# Altium integrated library TI Interface LVDS M-LVDS ECL CML.IntLib: 251 symbols (part 8 of 10)
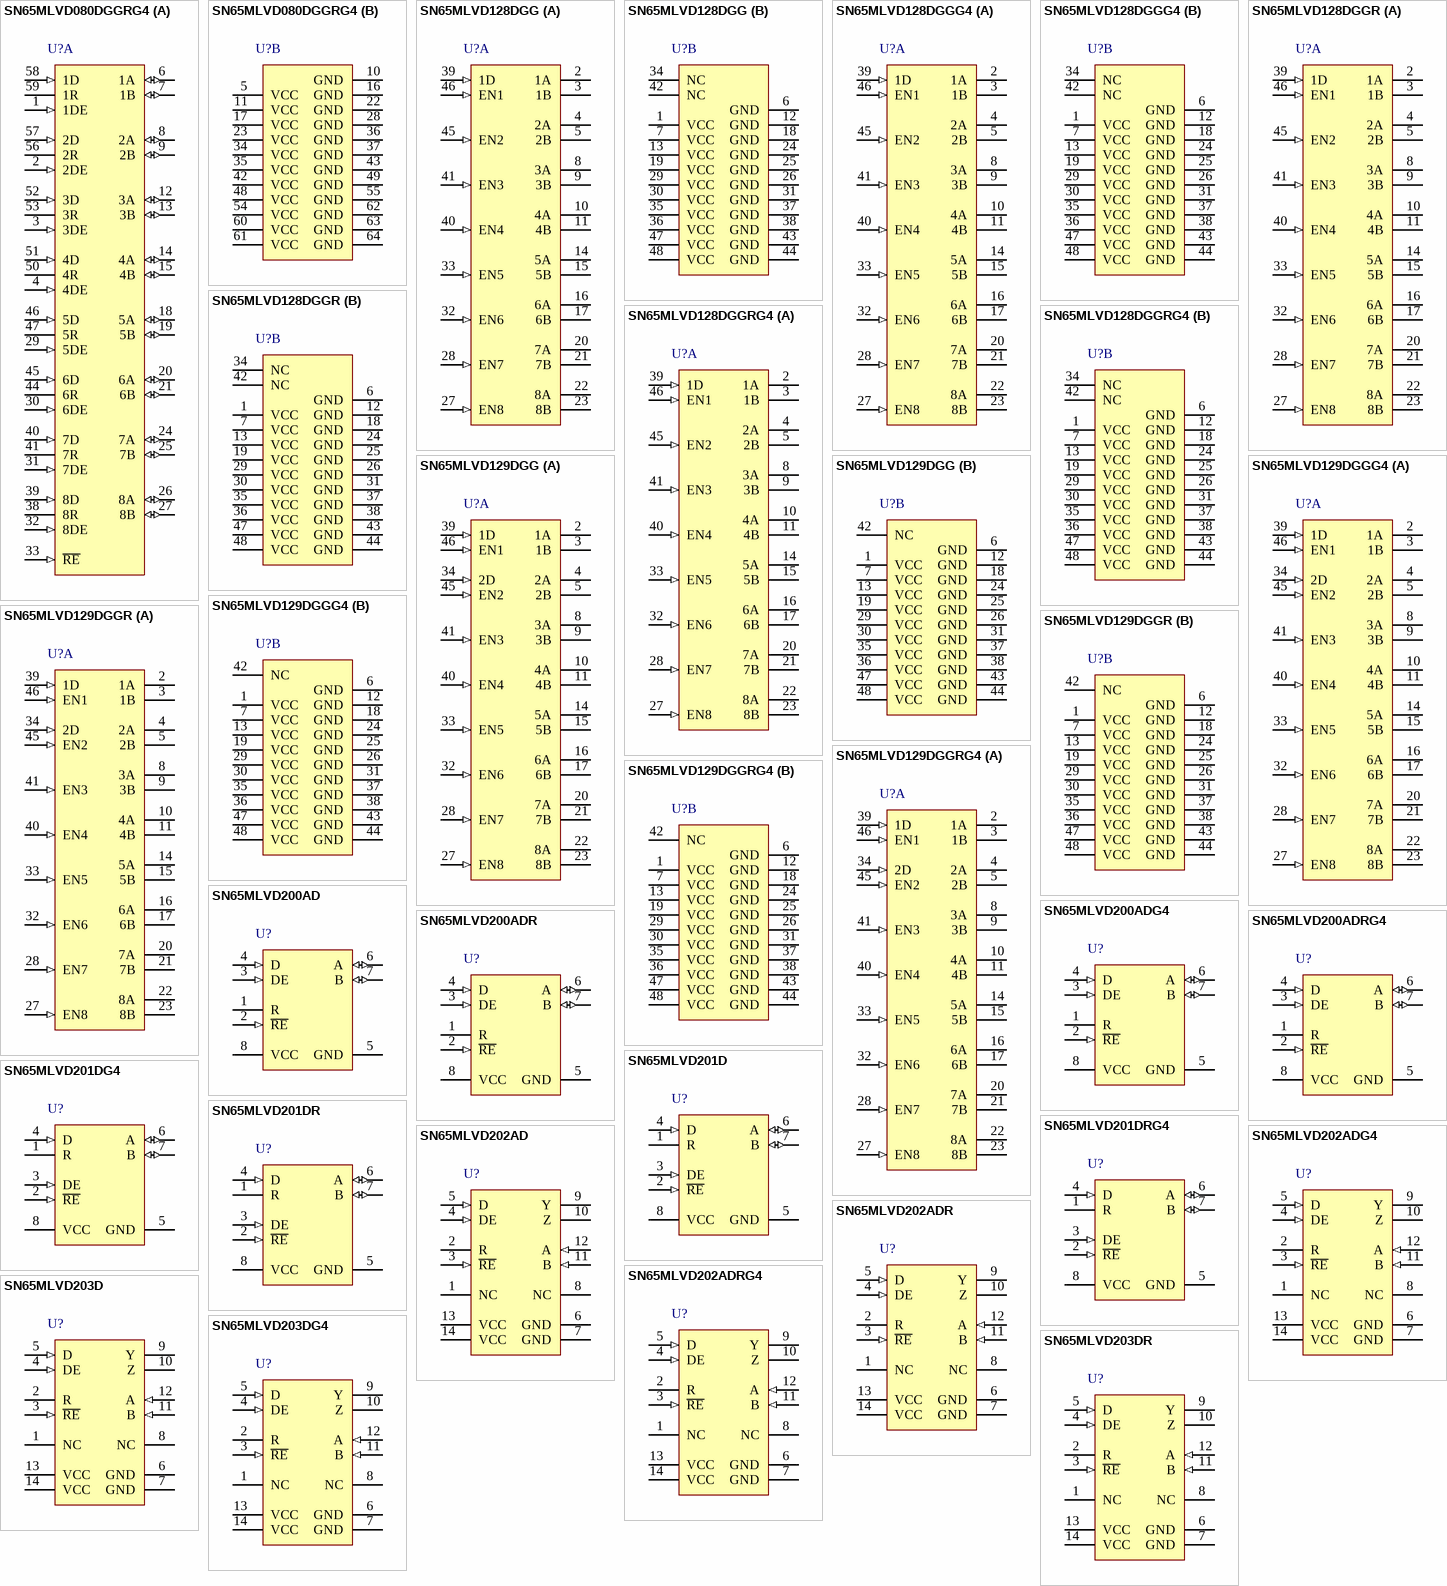
[diagram p16: symbols SN65MLVD080DGGRG4 to SN65MLVD203DR]

## SN65MLVD129DGGR
designator U?
250 Mbps Dual 1:4 LVTTL to M-LVDS Repeater with LVTTL Input and M-LVDS Output, 8 Tx and 2 Rx, -40 to +85 degC, 48-pin TSSOP (DGG), Green (RoHS & no Sb/Br); Part-to-Part Skew(Max)(ps): 800; Manufacturer: Texas Instruments; PartNumber: SN65MLVD129DGGR; ESD HBM(kV): 9; Function: Repeater/Translator; ICC(Max)(mA): 140; No. of Rx: 2; No. of Tx: 8; Peak-to-Peak Jitter(Max)(ps): 110; Signaling Rate(Mbps): 250; SubFamily: M-LVDS PHY (<500Mbps); DatasheetVersion: SLLS586; PackageVersion: revF, Dec-1997; PackageReference: DGG48; PackageDescription: 48-Pin Plastic Thin Shrink Small Outline Package 0.5 mm Pitch; Supplier 1: Digi-Key; Supplier Part Number 1: SN65MLVD129DGGR-ND; Supplier 2: Newark; Supplier Part Number 2: 01J0716; Supplier 3: Mouser; Supplier Part Number 3: 595-SN65MLVD129DGGR; Eco-Plan: Green (RoHS & no Sb/Br); Input Signal: LVTTL; Output Signal: M-LVDS; Mounting Technology: Surface Mount; Code_JEDEC: MO-153; ComponentLink1Description: Datasheet; ComponentLink1URL: http://www.ti.com/general/docs/lit/getliterature.tsp?genericPartNumber=SN65MLVD129&fileType=pdf; ComponentLink2Description: URL Link1; ComponentLink2URL: SamplesURL:http://www.ti.com/product/sn65mlvd129#samples
footprint DGG48_N (TSSOP, 48-Leads, Body 12.5x6.1mm, Pitch 0.5mm, IPC Medium Density)
footprint DGG48_L (TSSOP, 48-Leads, Body 12.5x6.1mm, Pitch 0.5mm, IPC High Density)
footprint DGG48_M (TSSOP, 48-Leads, Body 12.5x6.1mm, Pitch 0.5mm, IPC Low Density)
part A pins: 2 1A (hiz) "M-LVDS bus noninverting output", 3 1B (hiz) "M-LVDS bus inverting output", 4 2A (hiz) "M-LVDS bus noninverting output", 5 2B (hiz) "M-LVDS bus inverting output", 8 3A (hiz) "M-LVDS bus noninverting output", 9 3B (hiz) "M-LVDS bus inverting output", 10 4A (hiz) "M-LVDS bus noninverting output", 11 4B (hiz) "M-LVDS bus inverting output", 14 5A (hiz) "M-LVDS bus noninverting output", 15 5B (hiz) "M-LVDS bus inverting output", 16 6A (hiz) "M-LVDS bus noninverting output", 17 6B (hiz) "M-LVDS bus inverting output", 20 7A (hiz) "M-LVDS bus noninverting output", 21 7B (hiz) "M-LVDS bus inverting output", 22 8A (hiz) "M-LVDS bus noninverting output", 23 8B (hiz) "M-LVDS bus inverting output", 27 EN8 (in) "Driver enable,active high,individual enables", 28 EN7 (in) "Driver enable,active high,individual enables", 32 EN6 (in) "Driver enable,active high,individual enables", 33 EN5 (in) "Driver enable,active high,individual enables", 34 2D (in) "Data inputs for drivers", 39 1D (in) "Data inputs for drivers", 40 EN4 (in) "Driver enable,active high,individual enables", 41 EN3 (in) "Driver enable,active high,individual enables", 45 EN2 (in) "Driver enable,active high,individual enables", 46 EN1 (in) "Driver enable,active high,individual enables"
part B pins: 1 VCC (power) "Supply voltage", 6 GND (power) "Circuit ground", 7 VCC (power) "Supply voltage", 12 GND (power) "Circuit ground", 13 VCC (power) "Supply voltage", 18 GND (power) "Circuit ground", 19 VCC (power) "Supply voltage", 24 GND (power) "Circuit ground", 25 GND (power) "Circuit ground", 26 GND (power) "Circuit ground", 29 VCC (power) "Supply voltage", 30 VCC (power) "Supply voltage", 31 GND (power) "Circuit ground", 35 VCC (power) "Supply voltage", 36 VCC (power) "Supply voltage", 37 GND (power) "Circuit ground", 38 GND (power) "Circuit ground", 42 NC "Not connected", 43 GND (power) "Circuit ground", 44 GND (power) "Circuit ground", 47 VCC (power) "Supply voltage", 48 VCC (power) "Supply voltage"

## SN65MLVD129DGGRG4
designator U?
250 Mbps Dual 1:4 LVTTL to M-LVDS Repeater with LVTTL Input and M-LVDS Output, 8 Tx and 2 Rx, -40 to +85 degC, 48-pin TSSOP (DGG), Green (RoHS & no Sb/Br); Part-to-Part Skew(Max)(ps): 800; Manufacturer: Texas Instruments; PartNumber: SN65MLVD129DGGRG4; ESD HBM(kV): 9; Function: Repeater/Translator; ICC(Max)(mA): 140; No. of Rx: 2; No. of Tx: 8; Peak-to-Peak Jitter(Max)(ps): 110; Signaling Rate(Mbps): 250; SubFamily: M-LVDS PHY (<500Mbps); DatasheetVersion: SLLS586; PackageVersion: revF, Dec-1997; PackageReference: DGG48; PackageDescription: 48-Pin Plastic Thin Shrink Small Outline Package 0.5 mm Pitch; Supplier 1: Digi-Key; Supplier Part Number 1: SN65MLVD129DGGRG4-ND; Supplier 2: Newark; Supplier Part Number 2: 54K0593; Supplier 3: Mouser; Supplier Part Number 3: 595-SN65MLVD129DGGRG; Eco-Plan: Green (RoHS & no Sb/Br); Input Signal: LVTTL; Output Signal: M-LVDS; Mounting Technology: Surface Mount; Code_JEDEC: MO-153; ComponentLink1Description: Datasheet; ComponentLink1URL: http://www.ti.com/general/docs/lit/getliterature.tsp?genericPartNumber=SN65MLVD129&fileType=pdf; ComponentLink2Description: URL Link1; ComponentLink2URL: SamplesURL:http://www.ti.com/product/sn65mlvd129#samples
footprint DGG48_N (TSSOP, 48-Leads, Body 12.5x6.1mm, Pitch 0.5mm, IPC Medium Density)
footprint DGG48_L (TSSOP, 48-Leads, Body 12.5x6.1mm, Pitch 0.5mm, IPC High Density)
footprint DGG48_M (TSSOP, 48-Leads, Body 12.5x6.1mm, Pitch 0.5mm, IPC Low Density)
part A pins: 2 1A (hiz) "M-LVDS bus noninverting output", 3 1B (hiz) "M-LVDS bus inverting output", 4 2A (hiz) "M-LVDS bus noninverting output", 5 2B (hiz) "M-LVDS bus inverting output", 8 3A (hiz) "M-LVDS bus noninverting output", 9 3B (hiz) "M-LVDS bus inverting output", 10 4A (hiz) "M-LVDS bus noninverting output", 11 4B (hiz) "M-LVDS bus inverting output", 14 5A (hiz) "M-LVDS bus noninverting output", 15 5B (hiz) "M-LVDS bus inverting output", 16 6A (hiz) "M-LVDS bus noninverting output", 17 6B (hiz) "M-LVDS bus inverting output", 20 7A (hiz) "M-LVDS bus noninverting output", 21 7B (hiz) "M-LVDS bus inverting output", 22 8A (hiz) "M-LVDS bus noninverting output", 23 8B (hiz) "M-LVDS bus inverting output", 27 EN8 (in) "Driver enable,active high,individual enables", 28 EN7 (in) "Driver enable,active high,individual enables", 32 EN6 (in) "Driver enable,active high,individual enables", 33 EN5 (in) "Driver enable,active high,individual enables", 34 2D (in) "Data inputs for drivers", 39 1D (in) "Data inputs for drivers", 40 EN4 (in) "Driver enable,active high,individual enables", 41 EN3 (in) "Driver enable,active high,individual enables", 45 EN2 (in) "Driver enable,active high,individual enables", 46 EN1 (in) "Driver enable,active high,individual enables"
part B pins: 1 VCC (power) "Supply voltage", 6 GND (power) "Circuit ground", 7 VCC (power) "Supply voltage", 12 GND (power) "Circuit ground", 13 VCC (power) "Supply voltage", 18 GND (power) "Circuit ground", 19 VCC (power) "Supply voltage", 24 GND (power) "Circuit ground", 25 GND (power) "Circuit ground", 26 GND (power) "Circuit ground", 29 VCC (power) "Supply voltage", 30 VCC (power) "Supply voltage", 31 GND (power) "Circuit ground", 35 VCC (power) "Supply voltage", 36 VCC (power) "Supply voltage", 37 GND (power) "Circuit ground", 38 GND (power) "Circuit ground", 42 NC "Not connected", 43 GND (power) "Circuit ground", 44 GND (power) "Circuit ground", 47 VCC (power) "Supply voltage", 48 VCC (power) "Supply voltage"

## SN65MLVD200AD
designator U?
100 Mbps Half-Duplex M-LVDS Transceiver with LVTTL, M-LVDS Input and LVTTL, M-LVDS Output, 1 Tx and 1 Rx, -40 to +85 degC, 8-pin SOIC (D), Green (RoHS & no Sb/Br); Part-to-Part Skew(Max)(ps): 1000; Manufacturer: Texas Instruments; PartNumber: SN65MLVD200AD; ESD HBM(kV): 8; ICC(Max)(mA): 24; No. of Rx: 1; Signaling Rate(Mbps): 100; SubFamily: M-LVDS PHY (<500Mbps); DatasheetVersion: SLLS573; PackageVersion: revG, Feb-2011; PackageReference: PW14; PackageDescription: 14-Pin Thin Small Outline Package 0.65 mm Pitch; Eco-Plan: Green (RoHS & no Sb/Br); Function: Transceiver; Input Signal: LVTTL, M-LVDS; No. of Tx: 1; Output Signal: LVTTL, M-LVDS; Mounting Technology: Surface Mount; Code_JEDEC: MO-153; ComponentLink1Description: Datasheet; ComponentLink1URL: http://www.ti.com/general/docs/lit/getliterature.tsp?genericPartNumber=SN65MLVD200A&fileType=pdf; ComponentLink2Description: URL Link1; ComponentLink2URL: SamplesURL:http://www.ti.com/product/sn65mlvd200a#samples
footprint PW14_N (TSOP, 14-Leads, Body 5x4.4mm, Pitch 0.65mm, IPC Medium Density)
footprint PW14_L (TSOP, 14-Leads, Body 5x4.4mm, Pitch 0.65mm, IPC High Density)
footprint PW14_M (TSOP, 14-Leads, Body 5x4.4mm, Pitch 0.65mm, IPC Low Density)
pins: 1 R (hiz), 2 ~{RE} (in), 3 DE (in), 4 D (in), 5 GND (power), 6 A (io), 7 B (io), 8 VCC (power)

## SN65MLVD200ADG4
designator U?
100 Mbps Half-Duplex M-LVDS Transceiver with LVTTL, M-LVDS Input and LVTTL, M-LVDS Output, 1 Tx and 1 Rx, -40 to +85 degC, 8-pin SOIC (D), Green (RoHS & no Sb/Br); Part-to-Part Skew(Max)(ps): 1000; Manufacturer: Texas Instruments; PartNumber: SN65MLVD200ADG4; ESD HBM(kV): 8; ICC(Max)(mA): 24; No. of Rx: 1; Signaling Rate(Mbps): 100; SubFamily: M-LVDS PHY (<500Mbps); DatasheetVersion: SLLS573; PackageVersion: revG, Feb-2011; PackageReference: PW14; PackageDescription: 14-Pin Thin Small Outline Package 0.65 mm Pitch; Eco-Plan: Green (RoHS & no Sb/Br); Function: Transceiver; Input Signal: LVTTL, M-LVDS; No. of Tx: 1; Output Signal: LVTTL, M-LVDS; Mounting Technology: Surface Mount; Code_JEDEC: MO-153; ComponentLink1Description: Datasheet; ComponentLink1URL: http://www.ti.com/general/docs/lit/getliterature.tsp?genericPartNumber=SN65MLVD200A&fileType=pdf; ComponentLink2Description: URL Link1; ComponentLink2URL: SamplesURL:http://www.ti.com/product/sn65mlvd200a#samples
footprint PW14_N (TSOP, 14-Leads, Body 5x4.4mm, Pitch 0.65mm, IPC Medium Density)
footprint PW14_L (TSOP, 14-Leads, Body 5x4.4mm, Pitch 0.65mm, IPC High Density)
footprint PW14_M (TSOP, 14-Leads, Body 5x4.4mm, Pitch 0.65mm, IPC Low Density)
pins: 1 R (hiz), 2 ~{RE} (in), 3 DE (in), 4 D (in), 5 GND (power), 6 A (io), 7 B (io), 8 VCC (power)

## SN65MLVD200ADR
designator U?
100 Mbps Half-Duplex M-LVDS Transceiver with LVTTL, M-LVDS Input and LVTTL, M-LVDS Output, 1 Tx and 1 Rx, -40 to +85 degC, 8-pin SOIC (D), Green (RoHS & no Sb/Br); Part-to-Part Skew(Max)(ps): 1000; Manufacturer: Texas Instruments; PartNumber: SN65MLVD200ADR; ESD HBM(kV): 8; ICC(Max)(mA): 24; No. of Rx: 1; Signaling Rate(Mbps): 100; SubFamily: M-LVDS PHY (<500Mbps); DatasheetVersion: SLLS573; PackageVersion: revG, Feb-2011; PackageReference: PW14; PackageDescription: 14-Pin Thin Small Outline Package 0.65 mm Pitch; Eco-Plan: Green (RoHS & no Sb/Br); Function: Transceiver; Input Signal: LVTTL, M-LVDS; No. of Tx: 1; Output Signal: LVTTL, M-LVDS; Mounting Technology: Surface Mount; Code_JEDEC: MO-153; ComponentLink1Description: Datasheet; ComponentLink1URL: http://www.ti.com/general/docs/lit/getliterature.tsp?genericPartNumber=SN65MLVD200A&fileType=pdf; ComponentLink2Description: URL Link1; ComponentLink2URL: SamplesURL:http://www.ti.com/product/sn65mlvd200a#samples
footprint PW14_N (TSOP, 14-Leads, Body 5x4.4mm, Pitch 0.65mm, IPC Medium Density)
footprint PW14_L (TSOP, 14-Leads, Body 5x4.4mm, Pitch 0.65mm, IPC High Density)
footprint PW14_M (TSOP, 14-Leads, Body 5x4.4mm, Pitch 0.65mm, IPC Low Density)
pins: 1 R (hiz), 2 ~{RE} (in), 3 DE (in), 4 D (in), 5 GND (power), 6 A (io), 7 B (io), 8 VCC (power)

## SN65MLVD200ADRG4
designator U?
100 Mbps Half-Duplex M-LVDS Transceiver with LVTTL, M-LVDS Input and LVTTL, M-LVDS Output, 1 Tx and 1 Rx, -40 to +85 degC, 8-pin SOIC (D), Green (RoHS & no Sb/Br); Part-to-Part Skew(Max)(ps): 1000; Manufacturer: Texas Instruments; PartNumber: SN65MLVD200ADRG4; ESD HBM(kV): 8; ICC(Max)(mA): 24; No. of Rx: 1; Signaling Rate(Mbps): 100; SubFamily: M-LVDS PHY (<500Mbps); DatasheetVersion: SLLS573; PackageVersion: revG, Feb-2011; PackageReference: PW14; PackageDescription: 14-Pin Thin Small Outline Package 0.65 mm Pitch; Eco-Plan: Green (RoHS & no Sb/Br); Function: Transceiver; Input Signal: LVTTL, M-LVDS; No. of Tx: 1; Output Signal: LVTTL, M-LVDS; Mounting Technology: Surface Mount; Code_JEDEC: MO-153; ComponentLink1Description: Datasheet; ComponentLink1URL: http://www.ti.com/general/docs/lit/getliterature.tsp?genericPartNumber=SN65MLVD200A&fileType=pdf; ComponentLink2Description: URL Link1; ComponentLink2URL: SamplesURL:http://www.ti.com/product/sn65mlvd200a#samples
footprint PW14_N (TSOP, 14-Leads, Body 5x4.4mm, Pitch 0.65mm, IPC Medium Density)
footprint PW14_L (TSOP, 14-Leads, Body 5x4.4mm, Pitch 0.65mm, IPC High Density)
footprint PW14_M (TSOP, 14-Leads, Body 5x4.4mm, Pitch 0.65mm, IPC Low Density)
pins: 1 R (hiz), 2 ~{RE} (in), 3 DE (in), 4 D (in), 5 GND (power), 6 A (io), 7 B (io), 8 VCC (power)

## SN65MLVD201D
designator U?
200 Mbps Half-Duplex M-LVDS Transceiver with LVTTL, M-LVDS Input and LVTTL, M-LVDS Output, 1 Tx and 1 Rx, -40 to +85 degC, 8-pin SOIC (D), Green (RoHS & no Sb/Br); Part-to-Part Skew(Max)(ps): 1000; Manufacturer: Texas Instruments; PartNumber: SN65MLVD201D; ESD HBM(kV): 8; ICC(Max)(mA): 24; No. of Rx: 1; Signaling Rate(Mbps): 200; SubFamily: M-LVDS PHY (<500Mbps); DatasheetVersion: SLLS558C; PackageVersion: revM, Jun-2011; PackageReference: D8; PackageDescription: 8-Pin Plastic Small Outline Integrated Circuit, 4.9 x 3.9 mm, Pitch 1.27 mm Pitch; Eco-Plan: Green (RoHS & no Sb/Br); Function: Transceiver; Input Signal: LVTTL, M-LVDS; No. of Tx: 1; Output Signal: LVTTL, M-LVDS; Mounting Technology: Surface Mount; Code_JEDEC: MS-012AA; ComponentLink1Description: Datasheet; ComponentLink1URL: http://www.ti.com/general/docs/lit/getliterature.tsp?genericPartNumber=SN65MLVD201&fileType=pdf; ComponentLink2Description: URL Link1; ComponentLink2URL: SamplesURL:http://www.ti.com/product/sn65mlvd201#samples
footprint D8_N (SOIC, 8-Leads, Body 4.9x3.9mm, Pitch 1.27mm, IPC Medium Density)
footprint D8_L (SOIC, 8-Leads, Body 4.9x3.9mm, Pitch 1.27mm, IPC High Density)
footprint D8_M (SOIC, 8-Leads, Body 4.9x3.9mm, Pitch 1.27mm, IPC Low Density)
pins: 1 R (hiz), 2 ~{RE} (in), 3 DE (in), 4 D (in), 5 GND (power), 6 A (io), 7 B (io), 8 VCC (power)

## SN65MLVD201DG4
designator U?
200 Mbps Half Duplex M-LVDS Transceiver with LVTTL Input and LVTTL Output, 1 Tx and 1 Rx, -40 to +85 degC, 8-pin SOIC (D), Green (RoHS & no Sb/Br); Part-to-Part Skew(Max)(ps): 1000; Manufacturer: Texas Instruments; PartNumber: SN65MLVD201DG4; ESD HBM(kV): 8; ICC(Max)(mA): 24; Input Signal: LVTTL, M-LVDS; No. of Rx: 1; Signaling Rate(Mbps): 200; SubFamily: M-LVDS PHY (<500Mbps); DatasheetVersion: SLLS558C; PackageVersion: revM, Jun-2011; PackageReference: D8; PackageDescription: 8-Pin Plastic Small Outline Integrated Circuit, 4.9 x 3.9 mm, Pitch 1.27 mm Pitch; Eco-Plan: Green (RoHS & no Sb/Br); Function: Transceiver; No. of Tx: 1; Output Signal: LVTTL, M-LVDS; Mounting Technology: Surface Mount; Code_JEDEC: MS-012AA; ComponentLink1Description: Datasheet; ComponentLink1URL: http://www.ti.com/general/docs/lit/getliterature.tsp?genericPartNumber=SN65MLVD201&fileType=pdf; ComponentLink2Description: URL Link1; ComponentLink2URL: SamplesURL:http://www.ti.com/product/sn65mlvd201#samples
footprint D8_N (SOIC, 8-Leads, Body 4.9x3.9mm, Pitch 1.27mm, IPC Medium Density)
footprint D8_L (SOIC, 8-Leads, Body 4.9x3.9mm, Pitch 1.27mm, IPC High Density)
footprint D8_M (SOIC, 8-Leads, Body 4.9x3.9mm, Pitch 1.27mm, IPC Low Density)
pins: 1 R (hiz), 2 ~{RE} (in), 3 DE (in), 4 D (in), 5 GND (power), 6 A (io), 7 B (io), 8 VCC (power)

## SN65MLVD201DR
designator U?
200 Mbps Half Duplex M-LVDS Transceiver with LVTTL Input and LVTTL Output, 1 Tx and 1 Rx, -40 to +85 degC, 8-pin SOIC (D), Green (RoHS & no Sb/Br); Part-to-Part Skew(Max)(ps): 1000; Manufacturer: Texas Instruments; PartNumber: SN65MLVD201DR; ESD HBM(kV): 8; ICC(Max)(mA): 24; Input Signal: LVTTL, M-LVDS; No. of Rx: 1; Signaling Rate(Mbps): 200; SubFamily: M-LVDS PHY (<500Mbps); DatasheetVersion: SLLS558C; PackageVersion: revM, Jun-2011; PackageReference: D8; PackageDescription: 8-Pin Plastic Small Outline Integrated Circuit, 4.9 x 3.9 mm, Pitch 1.27 mm Pitch; Eco-Plan: Green (RoHS & no Sb/Br); Function: Transceiver; No. of Tx: 1; Output Signal: LVTTL, M-LVDS; Mounting Technology: Surface Mount; Code_JEDEC: MS-012AA; ComponentLink1Description: Datasheet; ComponentLink1URL: http://www.ti.com/general/docs/lit/getliterature.tsp?genericPartNumber=SN65MLVD201&fileType=pdf; ComponentLink2Description: URL Link1; ComponentLink2URL: SamplesURL:http://www.ti.com/product/sn65mlvd201#samples
footprint D8_N (SOIC, 8-Leads, Body 4.9x3.9mm, Pitch 1.27mm, IPC Medium Density)
footprint D8_L (SOIC, 8-Leads, Body 4.9x3.9mm, Pitch 1.27mm, IPC High Density)
footprint D8_M (SOIC, 8-Leads, Body 4.9x3.9mm, Pitch 1.27mm, IPC Low Density)
pins: 1 R (hiz), 2 ~{RE} (in), 3 DE (in), 4 D (in), 5 GND (power), 6 A (io), 7 B (io), 8 VCC (power)

## SN65MLVD201DRG4
designator U?
200 Mbps Half-Duplex M-LVDS Transceiver with LVTTL, M-LVDS Input and LVTTL, M-LVDS Output, 1 Tx and 1 Rx, -40 to +85 degC, 8-pin SOIC (D), Green (RoHS & no Sb/Br); Part-to-Part Skew(Max)(ps): 1000; Manufacturer: Texas Instruments; PartNumber: SN65MLVD201DRG4; ESD HBM(kV): 8; ICC(Max)(mA): 24; No. of Rx: 1; Signaling Rate(Mbps): 200; SubFamily: M-LVDS PHY (<500Mbps); DatasheetVersion: SLLS558C; PackageVersion: revM, Jun-2011; PackageReference: D8; PackageDescription: 8-Pin Plastic Small Outline Integrated Circuit, 4.9 x 3.9 mm, Pitch 1.27 mm Pitch; Eco-Plan: Green (RoHS & no Sb/Br); Function: Transceiver; Input Signal: LVTTL, M-LVDS; No. of Tx: 1; Output Signal: LVTTL, M-LVDS; Mounting Technology: Surface Mount; Code_JEDEC: MS-012AA; ComponentLink1Description: Datasheet; ComponentLink1URL: http://www.ti.com/general/docs/lit/getliterature.tsp?genericPartNumber=SN65MLVD201&fileType=pdf; ComponentLink2Description: URL Link1; ComponentLink2URL: SamplesURL:http://www.ti.com/product/sn65mlvd201#samples
footprint D8_N (SOIC, 8-Leads, Body 4.9x3.9mm, Pitch 1.27mm, IPC Medium Density)
footprint D8_L (SOIC, 8-Leads, Body 4.9x3.9mm, Pitch 1.27mm, IPC High Density)
footprint D8_M (SOIC, 8-Leads, Body 4.9x3.9mm, Pitch 1.27mm, IPC Low Density)
pins: 1 R (hiz), 2 ~{RE} (in), 3 DE (in), 4 D (in), 5 GND (power), 6 A (io), 7 B (io), 8 VCC (power)

## SN65MLVD202AD
designator U?
100 Mbps Full-Duplex M-LVDS Transceiver with LVTTL, M-LVDS Input and LVTTL, M-LVDS Output, 1Rx, -40 to +85 degC, 14-pin SOIC (D), Green (RoHS & no Sb/Br); Part-to-Part Skew(Max)(ps): 1000; Manufacturer: Texas Instruments; PartNumber: SN65MLVD202AD; ESD HBM(kV): 8; ICC(Max)(mA): 24; No. of Rx: 1; Signaling Rate(Mbps): 100; SubFamily: M-LVDS PHY (<500Mbps); DatasheetVersion: SLLS573; PackageVersion: revM, Jun-2011; PackageReference: D14; PackageDescription: 14-Pin Plastic Small Outline Integrated Circuit, 8.7 x 3.9 mm, Pitch 1.27 mm Pitch; Eco-Plan: Green (RoHS & no Sb/Br); Function: Transceiver; Input Signal: LVTTL, M-LVDS; No. of Tx: 1; Output Signal: LVTTL, M-LVDS; Mounting Technology: Surface Mount; Code_JEDEC: MS-012AB; ComponentLink1Description: Datasheet; ComponentLink1URL: http://www.ti.com/general/docs/lit/getliterature.tsp?genericPartNumber=SN65MLVD202A&fileType=pdf; ComponentLink2Description: URL Link1; ComponentLink2URL: SamplesURL:http://www.ti.com/product/sn65mlvd202a#samples
footprint D14_N (SOIC, 14-Leads, Body 8.7x3.9mm, Pitch 1.27mm, IPC Medium Density)
footprint D14_L (SOIC, 14-Leads, Body 8.7x3.9mm, Pitch 1.27mm, IPC High Density)
footprint D14_M (SOIC, 14-Leads, Body 8.7x3.9mm, Pitch 1.27mm, IPC Low Density)
pins: 1 NC, 2 R (hiz), 3 ~{RE} (in), 4 DE (in), 5 D (in), 6 GND (power), 7 GND (power), 8 NC, 9 Y (hiz), 10 Z (hiz), 11 B (in), 12 A (in), 13 VCC (power), 14 VCC (power)

## SN65MLVD202ADG4
designator U?
100 Mbps Full-Duplex M-LVDS Transceiver with LVTTL, M-LVDS Input and LVTTL, M-LVDS Output, 1Rx, -40 to +85 degC, 14-pin SOIC (D), Green (RoHS & no Sb/Br); Part-to-Part Skew(Max)(ps): 1000; Manufacturer: Texas Instruments; PartNumber: SN65MLVD202ADG4; ESD HBM(kV): 8; ICC(Max)(mA): 24; No. of Rx: 1; Signaling Rate(Mbps): 100; SubFamily: M-LVDS PHY (<500Mbps); DatasheetVersion: SLLS573; PackageVersion: revM, Jun-2011; PackageReference: D14; PackageDescription: 14-Pin Plastic Small Outline Integrated Circuit, 8.7 x 3.9 mm, Pitch 1.27 mm Pitch; Eco-Plan: Green (RoHS & no Sb/Br); Function: Transceiver; Input Signal: LVTTL, M-LVDS; No. of Tx: 1; Output Signal: LVTTL, M-LVDS; Mounting Technology: Surface Mount; Code_JEDEC: MS-012AB; ComponentLink1Description: Datasheet; ComponentLink1URL: http://www.ti.com/general/docs/lit/getliterature.tsp?genericPartNumber=SN65MLVD202A&fileType=pdf; ComponentLink2Description: URL Link1; ComponentLink2URL: SamplesURL:http://www.ti.com/product/sn65mlvd202a#samples
footprint D14_N (SOIC, 14-Leads, Body 8.7x3.9mm, Pitch 1.27mm, IPC Medium Density)
footprint D14_L (SOIC, 14-Leads, Body 8.7x3.9mm, Pitch 1.27mm, IPC High Density)
footprint D14_M (SOIC, 14-Leads, Body 8.7x3.9mm, Pitch 1.27mm, IPC Low Density)
pins: 1 NC, 2 R (hiz), 3 ~{RE} (in), 4 DE (in), 5 D (in), 6 GND (power), 7 GND (power), 8 NC, 9 Y (hiz), 10 Z (hiz), 11 B (in), 12 A (in), 13 VCC (power), 14 VCC (power)

## SN65MLVD202ADR
designator U?
100 Mbps Full-Duplex M-LVDS Transceiver with LVTTL, M-LVDS Input and LVTTL, M-LVDS Output, 1Rx, -40 to +85 degC, 14-pin SOIC (D), Green (RoHS & no Sb/Br); Part-to-Part Skew(Max)(ps): 1000; Manufacturer: Texas Instruments; PartNumber: SN65MLVD202ADR; ESD HBM(kV): 8; ICC(Max)(mA): 24; No. of Rx: 1; Signaling Rate(Mbps): 100; SubFamily: M-LVDS PHY (<500Mbps); DatasheetVersion: SLLS573; PackageVersion: revM, Jun-2011; PackageReference: D14; PackageDescription: 14-Pin Plastic Small Outline Integrated Circuit, 8.7 x 3.9 mm, Pitch 1.27 mm Pitch; Eco-Plan: Green (RoHS & no Sb/Br); Function: Transceiver; Input Signal: LVTTL, M-LVDS; No. of Tx: 1; Output Signal: LVTTL, M-LVDS; Mounting Technology: Surface Mount; Code_JEDEC: MS-012AB; ComponentLink1Description: Datasheet; ComponentLink1URL: http://www.ti.com/general/docs/lit/getliterature.tsp?genericPartNumber=SN65MLVD202A&fileType=pdf; ComponentLink2Description: URL Link1; ComponentLink2URL: SamplesURL:http://www.ti.com/product/sn65mlvd202a#samples
footprint D14_N (SOIC, 14-Leads, Body 8.7x3.9mm, Pitch 1.27mm, IPC Medium Density)
footprint D14_L (SOIC, 14-Leads, Body 8.7x3.9mm, Pitch 1.27mm, IPC High Density)
footprint D14_M (SOIC, 14-Leads, Body 8.7x3.9mm, Pitch 1.27mm, IPC Low Density)
pins: 1 NC, 2 R (hiz), 3 ~{RE} (in), 4 DE (in), 5 D (in), 6 GND (power), 7 GND (power), 8 NC, 9 Y (hiz), 10 Z (hiz), 11 B (in), 12 A (in), 13 VCC (power), 14 VCC (power)

## SN65MLVD202ADRG4
designator U?
100 Mbps Full-Duplex M-LVDS Transceiver with LVTTL, M-LVDS Input and LVTTL, M-LVDS Output, 1Rx, -40 to +85 degC, 14-pin SOIC (D), Green (RoHS & no Sb/Br); Part-to-Part Skew(Max)(ps): 1000; Manufacturer: Texas Instruments; PartNumber: SN65MLVD202ADRG4; ESD HBM(kV): 8; ICC(Max)(mA): 24; No. of Rx: 1; Signaling Rate(Mbps): 100; SubFamily: M-LVDS PHY (<500Mbps); DatasheetVersion: SLLS573; PackageVersion: revM, Jun-2011; PackageReference: D14; PackageDescription: 14-Pin Plastic Small Outline Integrated Circuit, 8.7 x 3.9 mm, Pitch 1.27 mm Pitch; Eco-Plan: Green (RoHS & no Sb/Br); Function: Transceiver; Input Signal: LVTTL, M-LVDS; No. of Tx: 1; Output Signal: LVTTL, M-LVDS; Mounting Technology: Surface Mount; Code_JEDEC: MS-012AB; ComponentLink1Description: Datasheet; ComponentLink1URL: http://www.ti.com/general/docs/lit/getliterature.tsp?genericPartNumber=SN65MLVD202A&fileType=pdf; ComponentLink2Description: URL Link1; ComponentLink2URL: SamplesURL:http://www.ti.com/product/sn65mlvd202a#samples
footprint D14_N (SOIC, 14-Leads, Body 8.7x3.9mm, Pitch 1.27mm, IPC Medium Density)
footprint D14_L (SOIC, 14-Leads, Body 8.7x3.9mm, Pitch 1.27mm, IPC High Density)
footprint D14_M (SOIC, 14-Leads, Body 8.7x3.9mm, Pitch 1.27mm, IPC Low Density)
pins: 1 NC, 2 R (hiz), 3 ~{RE} (in), 4 DE (in), 5 D (in), 6 GND (power), 7 GND (power), 8 NC, 9 Y (hiz), 10 Z (hiz), 11 B (in), 12 A (in), 13 VCC (power), 14 VCC (power)

## SN65MLVD203D
designator U?
200 Mbps Full-Duplex M-LVDS Transceiver with LVTTL, M-LVDS Input and LVTTL, M-LVDS Output, 1 Tx and 1 Rx, -40 to +85 degC, 14-pin SOIC (D), Green (RoHS & no Sb/Br); Part-to-Part Skew(Max)(ps): 1000; Manufacturer: Texas Instruments; PartNumber: SN65MLVD203D; ESD HBM(kV): 8; ICC(Max)(mA): 24; No. of Rx: 1; Signaling Rate(Mbps): 200; SubFamily: M-LVDS PHY (<500Mbps); DatasheetVersion: SLLS558C; PackageVersion: revM, Jun-2011; PackageReference: D14; PackageDescription: 14-Pin Plastic Small Outline Integrated Circuit, 8.7 x 3.9 mm, Pitch 1.27 mm Pitch; Eco-Plan: Green (RoHS & no Sb/Br); Function: Transceiver; Input Signal: LVTTL, M-LVDS; No. of Tx: 1; Output Signal: LVTTL, M-LVDS; Mounting Technology: Surface Mount; Code_JEDEC: MS-012AB; ComponentLink1Description: Datasheet; ComponentLink1URL: http://www.ti.com/general/docs/lit/getliterature.tsp?genericPartNumber=SN65MLVD203&fileType=pdf; ComponentLink2Description: URL Link1; ComponentLink2URL: SamplesURL:http://www.ti.com/product/sn65mlvd203#samples
footprint D14_N (SOIC, 14-Leads, Body 8.7x3.9mm, Pitch 1.27mm, IPC Medium Density)
footprint D14_L (SOIC, 14-Leads, Body 8.7x3.9mm, Pitch 1.27mm, IPC High Density)
footprint D14_M (SOIC, 14-Leads, Body 8.7x3.9mm, Pitch 1.27mm, IPC Low Density)
pins: 1 NC, 2 R (hiz), 3 ~{RE} (in), 4 DE (in), 5 D (in), 6 GND (power), 7 GND (power), 8 NC, 9 Y (hiz), 10 Z (hiz), 11 B (in), 12 A (in), 13 VCC (power), 14 VCC (power)

## SN65MLVD203DG4
designator U?
200 Mbps Full-Duplex M-LVDS Transceiver with LVTTL, M-LVDS Input and LVTTL, M-LVDS Output, 1 Tx and 1 Rx, -40 to +85 degC, 14-pin SOIC (D), Green (RoHS & no Sb/Br); Part-to-Part Skew(Max)(ps): 1000; Manufacturer: Texas Instruments; PartNumber: SN65MLVD203DG4; ESD HBM(kV): 8; ICC(Max)(mA): 24; No. of Rx: 1; Signaling Rate(Mbps): 200; SubFamily: M-LVDS PHY (<500Mbps); DatasheetVersion: SLLS558C; PackageVersion: revM, Jun-2011; PackageReference: D14; PackageDescription: 14-Pin Plastic Small Outline Integrated Circuit, 8.7 x 3.9 mm, Pitch 1.27 mm Pitch; Eco-Plan: Green (RoHS & no Sb/Br); Function: Transceiver; Input Signal: LVTTL, M-LVDS; No. of Tx: 1; Output Signal: LVTTL, M-LVDS; Mounting Technology: Surface Mount; Code_JEDEC: MS-012AB; ComponentLink1Description: Datasheet; ComponentLink1URL: http://www.ti.com/general/docs/lit/getliterature.tsp?genericPartNumber=SN65MLVD203&fileType=pdf; ComponentLink2Description: URL Link1; ComponentLink2URL: SamplesURL:http://www.ti.com/product/sn65mlvd203#samples
footprint D14_N (SOIC, 14-Leads, Body 8.7x3.9mm, Pitch 1.27mm, IPC Medium Density)
footprint D14_L (SOIC, 14-Leads, Body 8.7x3.9mm, Pitch 1.27mm, IPC High Density)
footprint D14_M (SOIC, 14-Leads, Body 8.7x3.9mm, Pitch 1.27mm, IPC Low Density)
pins: 1 NC, 2 R (hiz), 3 ~{RE} (in), 4 DE (in), 5 D (in), 6 GND (power), 7 GND (power), 8 NC, 9 Y (hiz), 10 Z (hiz), 11 B (in), 12 A (in), 13 VCC (power), 14 VCC (power)

## SN65MLVD203DR
designator U?
200 Mbps Full Duplex M-LVDS Transceiver with LVTTL, M-LVDS Input and LVTTL, M-LVDS Output, 1 Tx and 1 Rx, -40 to +85 degC, 14-pin SOIC (D), Green (RoHS & no Sb/Br); Part-to-Part Skew(Max)(ps): 1000; Manufacturer: Texas Instruments; PartNumber: SN65MLVD203DR; ESD HBM(kV): 8; ICC(Max)(mA): 24; No. of Rx: 1; Signaling Rate(Mbps): 200; SubFamily: M-LVDS PHY (<500Mbps); DatasheetVersion: SLLS558C; PackageVersion: revM, Jun-2011; PackageReference: D14; PackageDescription: 14-Pin Plastic Small Outline Integrated Circuit, 8.7 x 3.9 mm, Pitch 1.27 mm Pitch; Eco-Plan: Green (RoHS & no Sb/Br); Function: Transceiver; Input Signal: LVTTL, M-LVDS; No. of Tx: 1; Output Signal: LVTTL, M-LVDS; Mounting Technology: Surface Mount; Code_JEDEC: MS-012AB; ComponentLink1Description: Datasheet; ComponentLink1URL: http://www.ti.com/general/docs/lit/getliterature.tsp?genericPartNumber=SN65MLVD203&fileType=pdf; ComponentLink2Description: URL Link1; ComponentLink2URL: SamplesURL:http://www.ti.com/product/sn65mlvd203#samples
footprint D14_N (SOIC, 14-Leads, Body 8.7x3.9mm, Pitch 1.27mm, IPC Medium Density)
footprint D14_L (SOIC, 14-Leads, Body 8.7x3.9mm, Pitch 1.27mm, IPC High Density)
footprint D14_M (SOIC, 14-Leads, Body 8.7x3.9mm, Pitch 1.27mm, IPC Low Density)
pins: 1 NC, 2 R (hiz), 3 ~{RE} (in), 4 DE (in), 5 D (in), 6 GND (power), 7 GND (power), 8 NC, 9 Y (hiz), 10 Z (hiz), 11 B (in), 12 A (in), 13 VCC (power), 14 VCC (power)

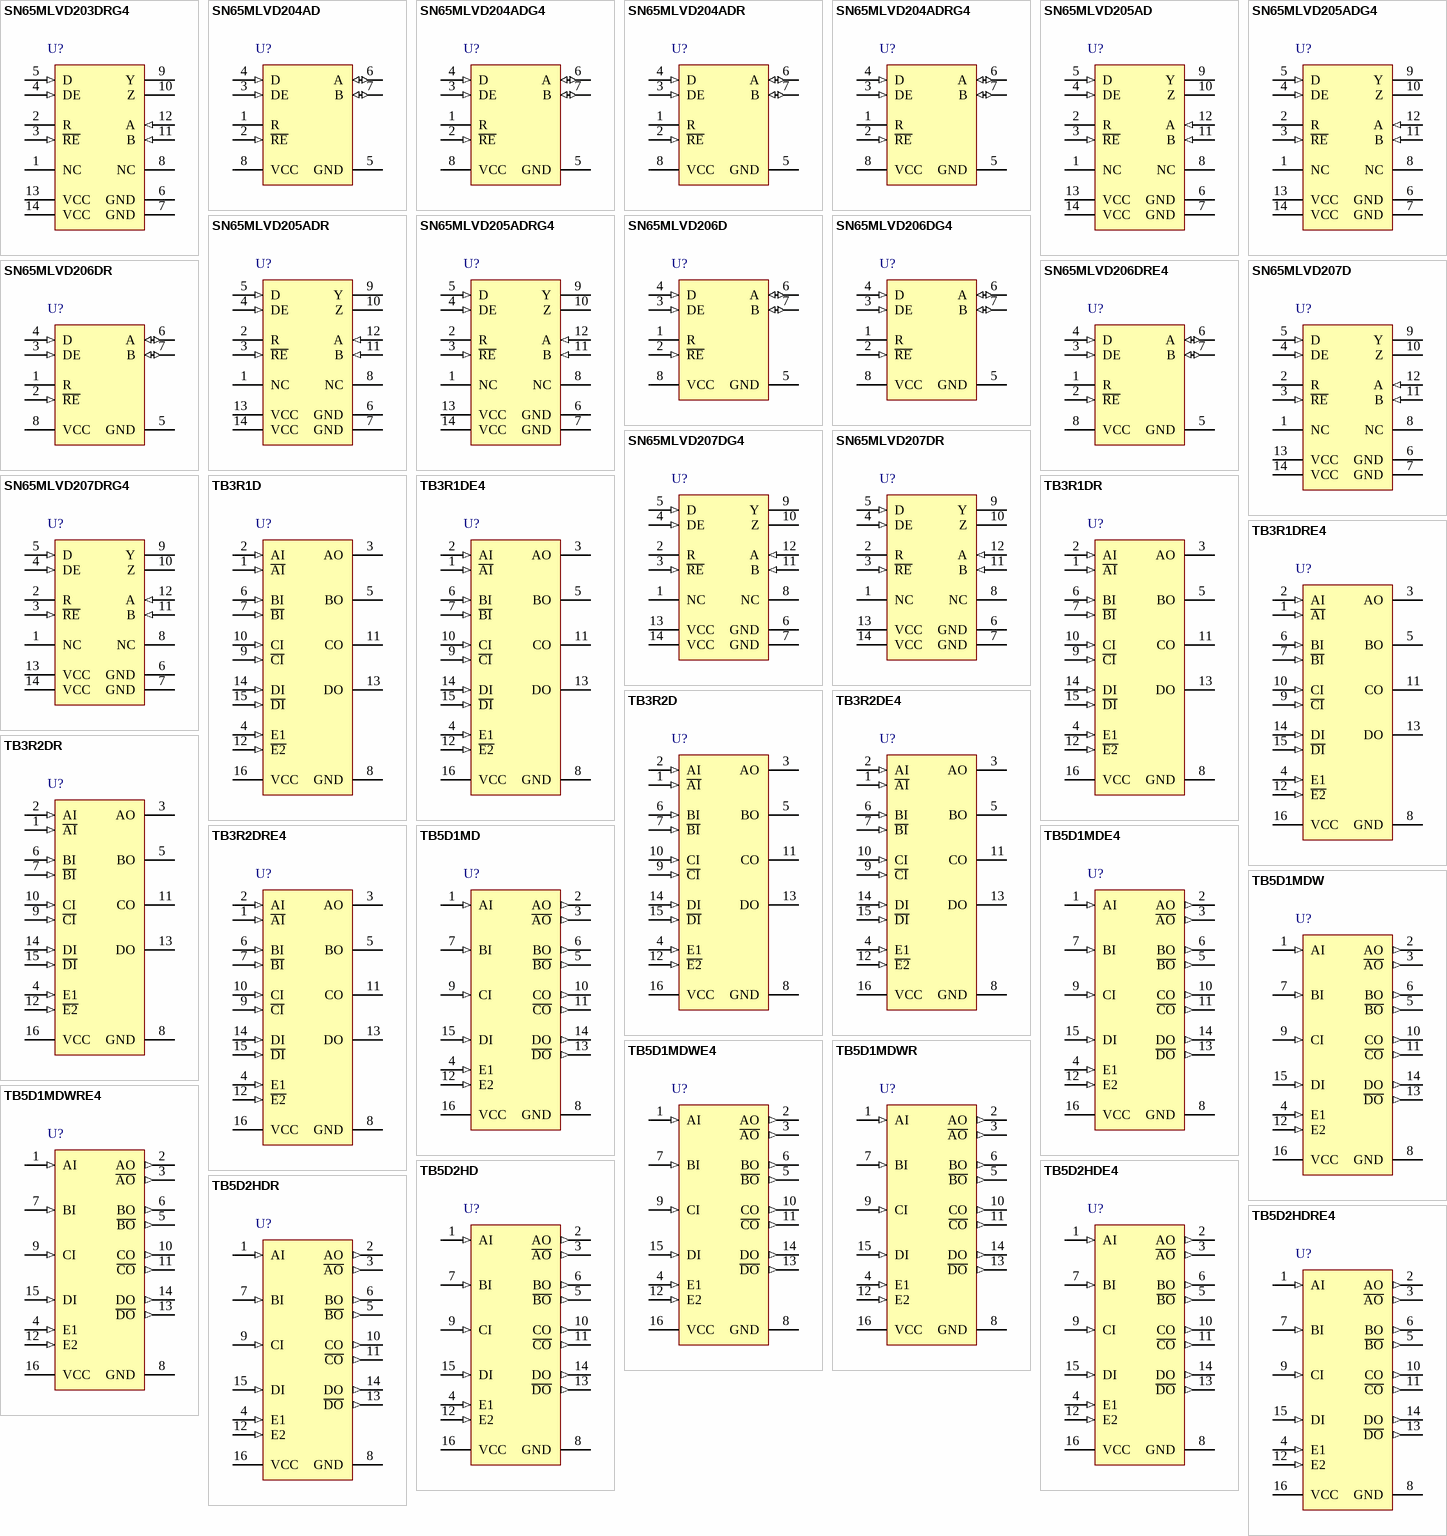
[diagram p7: symbols SN65MLVD203DRG4 to TB5D2HDRE4]

## SN65MLVD203DRG4
designator U?
200 Mbps Full Duplex M-LVDS Transceiver with LVTTL, M-LVDS Input and LVTTL, M-LVDS Output, 1 Tx and 1 Rx, -40 to +85 degC, 14-pin SOIC (D), Green (RoHS & no Sb/Br); Part-to-Part Skew(Max)(ps): 1000; Manufacturer: Texas Instruments; PartNumber: SN65MLVD203DRG4; ESD HBM(kV): 8; ICC(Max)(mA): 24; No. of Rx: 1; Signaling Rate(Mbps): 200; SubFamily: M-LVDS PHY (<500Mbps); DatasheetVersion: SLLS558C; PackageVersion: revM, Jun-2011; PackageReference: D14; PackageDescription: 14-Pin Plastic Small Outline Integrated Circuit, 8.7 x 3.9 mm, Pitch 1.27 mm Pitch; Eco-Plan: Green (RoHS & no Sb/Br); Function: Transceiver; Input Signal: LVTTL, M-LVDS; No. of Tx: 1; Output Signal: LVTTL, M-LVDS; Mounting Technology: Surface Mount; Code_JEDEC: MS-012AB; ComponentLink1Description: Datasheet; ComponentLink1URL: http://www.ti.com/general/docs/lit/getliterature.tsp?genericPartNumber=SN65MLVD203&fileType=pdf; ComponentLink2Description: URL Link1; ComponentLink2URL: SamplesURL:http://www.ti.com/product/sn65mlvd203#samples
footprint D14_N (SOIC, 14-Leads, Body 8.7x3.9mm, Pitch 1.27mm, IPC Medium Density)
footprint D14_L (SOIC, 14-Leads, Body 8.7x3.9mm, Pitch 1.27mm, IPC High Density)
footprint D14_M (SOIC, 14-Leads, Body 8.7x3.9mm, Pitch 1.27mm, IPC Low Density)
pins: 1 NC, 2 R (hiz), 3 ~{RE} (in), 4 DE (in), 5 D (in), 6 GND (power), 7 GND (power), 8 NC, 9 Y (hiz), 10 Z (hiz), 11 B (in), 12 A (in), 13 VCC (power), 14 VCC (power)

## SN65MLVD204AD
designator U?
100 Mbps Half-Duplex M-LVDS Transceiver with LVTTL, M-LVDS Input and LVTTL, M-LVDS Output, 1 Tx and 1 Rx, -40 to +85 degC, 8-pin SOIC (D), Green (RoHS & no Sb/Br); Part-to-Part Skew(Max)(ps): 1000; Manufacturer: Texas Instruments; PartNumber: SN65MLVD204AD; ESD HBM(kV): 8; ICC(Max)(mA): 24; No. of Rx: 1; Signaling Rate(Mbps): 100; SubFamily: M-LVDS PHY (<500Mbps); DatasheetVersion: SLLS573; PackageVersion: revM, Jun-2011; PackageReference: D14; PackageDescription: 14-Pin Plastic Small Outline Integrated Circuit, 8.7 x 3.9 mm, Pitch 1.27 mm Pitch; Eco-Plan: Green (RoHS & no Sb/Br); Function: Transceiver; Input Signal: LVTTL, M-LVDS; No. of Tx: 1; Output Signal: LVTTL, M-LVDS; Mounting Technology: Surface Mount; Code_JEDEC: MS-012AB; ComponentLink1Description: Datasheet; ComponentLink1URL: http://www.ti.com/general/docs/lit/getliterature.tsp?genericPartNumber=SN65MLVD204A&fileType=pdf; ComponentLink2Description: URL Link1; ComponentLink2URL: SamplesURL:http://www.ti.com/product/sn65mlvd204a#samples
footprint D14_N (SOIC, 14-Leads, Body 8.7x3.9mm, Pitch 1.27mm, IPC Medium Density)
footprint D14_L (SOIC, 14-Leads, Body 8.7x3.9mm, Pitch 1.27mm, IPC High Density)
footprint D14_M (SOIC, 14-Leads, Body 8.7x3.9mm, Pitch 1.27mm, IPC Low Density)
pins: 1 R (hiz), 2 ~{RE} (in), 3 DE (in), 4 D (in), 5 GND (power), 6 A (io), 7 B (io), 8 VCC (power)

## SN65MLVD204ADG4
designator U?
100 Mbps Half-Duplex M-LVDS Transceiver with LVTTL, M-LVDS Input and LVTTL, M-LVDS Output, 1 Tx and 1 Rx, -40 to +85 degC, 8-pin SOIC (D), Green (RoHS & no Sb/Br); Part-to-Part Skew(Max)(ps): 1000; Manufacturer: Texas Instruments; PartNumber: SN65MLVD204ADG4; ESD HBM(kV): 8; ICC(Max)(mA): 24; No. of Rx: 1; Signaling Rate(Mbps): 100; SubFamily: M-LVDS PHY (<500Mbps); DatasheetVersion: SLLS573; PackageVersion: revM, Jun-2011; PackageReference: D14; PackageDescription: 14-Pin Plastic Small Outline Integrated Circuit, 8.7 x 3.9 mm, Pitch 1.27 mm Pitch; Eco-Plan: Green (RoHS & no Sb/Br); Function: Transceiver; Input Signal: LVTTL, M-LVDS; No. of Tx: 1; Output Signal: LVTTL, M-LVDS; Mounting Technology: Surface Mount; Code_JEDEC: MS-012AB; ComponentLink1Description: Datasheet; ComponentLink1URL: http://www.ti.com/general/docs/lit/getliterature.tsp?genericPartNumber=SN65MLVD204A&fileType=pdf; ComponentLink2Description: URL Link1; ComponentLink2URL: SamplesURL:http://www.ti.com/product/sn65mlvd204a#samples
footprint D14_N (SOIC, 14-Leads, Body 8.7x3.9mm, Pitch 1.27mm, IPC Medium Density)
footprint D14_L (SOIC, 14-Leads, Body 8.7x3.9mm, Pitch 1.27mm, IPC High Density)
footprint D14_M (SOIC, 14-Leads, Body 8.7x3.9mm, Pitch 1.27mm, IPC Low Density)
pins: 1 R (hiz), 2 ~{RE} (in), 3 DE (in), 4 D (in), 5 GND (power), 6 A (io), 7 B (io), 8 VCC (power)

## SN65MLVD204ADR
designator U?
100 Mbps Half-Duplex M-LVDS Transceiver with LVTTL, M-LVDS Input and LVTTL, M-LVDS Output, 1 Tx and 1 Rx, -40 to +85 degC, 8-pin SOIC (D), Green (RoHS & no Sb/Br); Part-to-Part Skew(Max)(ps): 1000; Manufacturer: Texas Instruments; PartNumber: SN65MLVD204ADR; ESD HBM(kV): 8; ICC(Max)(mA): 24; No. of Rx: 1; Signaling Rate(Mbps): 100; SubFamily: M-LVDS PHY (<500Mbps); DatasheetVersion: SLLS573; PackageVersion: revM, Jun-2011; PackageReference: D14; PackageDescription: 14-Pin Plastic Small Outline Integrated Circuit, 8.7 x 3.9 mm, Pitch 1.27 mm Pitch; Eco-Plan: Green (RoHS & no Sb/Br); Function: Transceiver; Input Signal: LVTTL, M-LVDS; No. of Tx: 1; Output Signal: LVTTL, M-LVDS; Mounting Technology: Surface Mount; Code_JEDEC: MS-012AB; ComponentLink1Description: Datasheet; ComponentLink1URL: http://www.ti.com/general/docs/lit/getliterature.tsp?genericPartNumber=SN65MLVD204A&fileType=pdf; ComponentLink2Description: URL Link1; ComponentLink2URL: SamplesURL:http://www.ti.com/product/sn65mlvd204a#samples
footprint D14_N (SOIC, 14-Leads, Body 8.7x3.9mm, Pitch 1.27mm, IPC Medium Density)
footprint D14_L (SOIC, 14-Leads, Body 8.7x3.9mm, Pitch 1.27mm, IPC High Density)
footprint D14_M (SOIC, 14-Leads, Body 8.7x3.9mm, Pitch 1.27mm, IPC Low Density)
pins: 1 R (hiz), 2 ~{RE} (in), 3 DE (in), 4 D (in), 5 GND (power), 6 A (io), 7 B (io), 8 VCC (power)

## SN65MLVD204ADRG4
designator U?
100 Mbps Half-Duplex M-LVDS Transceiver with LVTTL, M-LVDS Input and LVTTL, M-LVDS Output, 1 Tx and 1 Rx, -40 to +85 degC, 8-pin SOIC (D), Green (RoHS & no Sb/Br); Part-to-Part Skew(Max)(ps): 1000; Manufacturer: Texas Instruments; PartNumber: SN65MLVD204ADRG4; ESD HBM(kV): 8; ICC(Max)(mA): 24; No. of Rx: 1; Signaling Rate(Mbps): 100; SubFamily: M-LVDS PHY (<500Mbps); DatasheetVersion: SLLS573; PackageVersion: revM, Jun-2011; PackageReference: D14; PackageDescription: 14-Pin Plastic Small Outline Integrated Circuit, 8.7 x 3.9 mm, Pitch 1.27 mm Pitch; Eco-Plan: Green (RoHS & no Sb/Br); Function: Transceiver; Input Signal: LVTTL, M-LVDS; No. of Tx: 1; Output Signal: LVTTL, M-LVDS; Mounting Technology: Surface Mount; Code_JEDEC: MS-012AB; ComponentLink1Description: Datasheet; ComponentLink1URL: http://www.ti.com/general/docs/lit/getliterature.tsp?genericPartNumber=SN65MLVD204A&fileType=pdf; ComponentLink2Description: URL Link1; ComponentLink2URL: SamplesURL:http://www.ti.com/product/sn65mlvd204a#samples
footprint D14_N (SOIC, 14-Leads, Body 8.7x3.9mm, Pitch 1.27mm, IPC Medium Density)
footprint D14_L (SOIC, 14-Leads, Body 8.7x3.9mm, Pitch 1.27mm, IPC High Density)
footprint D14_M (SOIC, 14-Leads, Body 8.7x3.9mm, Pitch 1.27mm, IPC Low Density)
pins: 1 R (hiz), 2 ~{RE} (in), 3 DE (in), 4 D (in), 5 GND (power), 6 A (io), 7 B (io), 8 VCC (power)

## SN65MLVD205AD
designator U?
100 Mbps Full-Duplex M-LVDS Transceiver with LVTTL, M-LVDS Input and LVTTL, M-LVDS Output, 1 Tx and 1 Rx, -40 to +85 degC, 14-pin SOIC (D), Green (RoHS & no Sb/Br); Part-to-Part Skew(Max)(ps): 1000; Manufacturer: Texas Instruments; PartNumber: SN65MLVD205AD; ESD HBM(kV): 8; ICC(Max)(mA): 24; No. of Rx: 1; Signaling Rate(Mbps): 100; SubFamily: M-LVDS PHY (<500Mbps); DatasheetVersion: SLLS573; PackageVersion: revM, Jun-2011; PackageReference: D14; PackageDescription: 14-Pin Plastic Small Outline Integrated Circuit, 8.7 x 3.9 mm, Pitch 1.27 mm Pitch; Eco-Plan: Green (RoHS & no Sb/Br); Function: Transceiver; Input Signal: LVTTL, M-LVDS; No. of Tx: 1; Output Signal: LVTTL, M-LVDS; Mounting Technology: Surface Mount; Code_JEDEC: MS-012AB; ComponentLink1Description: Datasheet; ComponentLink1URL: http://www.ti.com/general/docs/lit/getliterature.tsp?genericPartNumber=SN65MLVD205A&fileType=pdf; ComponentLink2Description: URL Link1; ComponentLink2URL: SamplesURL:http://www.ti.com/product/sn65mlvd205a#samples
footprint D14_N (SOIC, 14-Leads, Body 8.7x3.9mm, Pitch 1.27mm, IPC Medium Density)
footprint D14_L (SOIC, 14-Leads, Body 8.7x3.9mm, Pitch 1.27mm, IPC High Density)
footprint D14_M (SOIC, 14-Leads, Body 8.7x3.9mm, Pitch 1.27mm, IPC Low Density)
pins: 1 NC, 2 R (hiz), 3 ~{RE} (in), 4 DE (in), 5 D (in), 6 GND (power), 7 GND (power), 8 NC, 9 Y (hiz), 10 Z (hiz), 11 B (in), 12 A (in), 13 VCC (power), 14 VCC (power)

## SN65MLVD205ADG4
designator U?
100 Mbps Full-Duplex M-LVDS Transceiver with LVTTL, M-LVDS Input and LVTTL, M-LVDS Output, 1 Tx and 1 Rx, -40 to +85 degC, 14-pin SOIC (D), Green (RoHS & no Sb/Br); Part-to-Part Skew(Max)(ps): 1000; Manufacturer: Texas Instruments; PartNumber: SN65MLVD205ADG4; ESD HBM(kV): 8; ICC(Max)(mA): 24; No. of Rx: 1; Signaling Rate(Mbps): 100; SubFamily: M-LVDS PHY (<500Mbps); DatasheetVersion: SLLS573; PackageVersion: revM, Jun-2011; PackageReference: D14; PackageDescription: 14-Pin Plastic Small Outline Integrated Circuit, 8.7 x 3.9 mm, Pitch 1.27 mm Pitch; Eco-Plan: Green (RoHS & no Sb/Br); Function: Transceiver; Input Signal: LVTTL, M-LVDS; No. of Tx: 1; Output Signal: LVTTL, M-LVDS; Mounting Technology: Surface Mount; Code_JEDEC: MS-012AB; ComponentLink1Description: Datasheet; ComponentLink1URL: http://www.ti.com/general/docs/lit/getliterature.tsp?genericPartNumber=SN65MLVD205A&fileType=pdf; ComponentLink2Description: URL Link1; ComponentLink2URL: SamplesURL:http://www.ti.com/product/sn65mlvd205a#samples
footprint D14_N (SOIC, 14-Leads, Body 8.7x3.9mm, Pitch 1.27mm, IPC Medium Density)
footprint D14_L (SOIC, 14-Leads, Body 8.7x3.9mm, Pitch 1.27mm, IPC High Density)
footprint D14_M (SOIC, 14-Leads, Body 8.7x3.9mm, Pitch 1.27mm, IPC Low Density)
pins: 1 NC, 2 R (hiz), 3 ~{RE} (in), 4 DE (in), 5 D (in), 6 GND (power), 7 GND (power), 8 NC, 9 Y (hiz), 10 Z (hiz), 11 B (in), 12 A (in), 13 VCC (power), 14 VCC (power)

## SN65MLVD205ADR
designator U?
100 Mbps Full-Duplex M-LVDS Transceiver with LVTTL, M-LVDS Input and LVTTL, M-LVDS Output, 1 Tx and 1 Rx, -40 to +85 degC, 14-pin SOIC (D), Green (RoHS & no Sb/Br); Part-to-Part Skew(Max)(ps): 1000; Manufacturer: Texas Instruments; PartNumber: SN65MLVD205ADR; ESD HBM(kV): 8; ICC(Max)(mA): 24; No. of Rx: 1; Signaling Rate(Mbps): 100; SubFamily: M-LVDS PHY (<500Mbps); DatasheetVersion: SLLS573; PackageVersion: revM, Jun-2011; PackageReference: D14; PackageDescription: 14-Pin Plastic Small Outline Integrated Circuit, 8.7 x 3.9 mm, Pitch 1.27 mm Pitch; Eco-Plan: Green (RoHS & no Sb/Br); Function: Transceiver; Input Signal: LVTTL, M-LVDS; No. of Tx: 1; Output Signal: LVTTL, M-LVDS; Mounting Technology: Surface Mount; Code_JEDEC: MS-012AB; ComponentLink1Description: Datasheet; ComponentLink1URL: http://www.ti.com/general/docs/lit/getliterature.tsp?genericPartNumber=SN65MLVD205A&fileType=pdf; ComponentLink2Description: URL Link1; ComponentLink2URL: SamplesURL:http://www.ti.com/product/sn65mlvd205a#samples
footprint D14_N (SOIC, 14-Leads, Body 8.7x3.9mm, Pitch 1.27mm, IPC Medium Density)
footprint D14_L (SOIC, 14-Leads, Body 8.7x3.9mm, Pitch 1.27mm, IPC High Density)
footprint D14_M (SOIC, 14-Leads, Body 8.7x3.9mm, Pitch 1.27mm, IPC Low Density)
pins: 1 NC, 2 R (hiz), 3 ~{RE} (in), 4 DE (in), 5 D (in), 6 GND (power), 7 GND (power), 8 NC, 9 Y (hiz), 10 Z (hiz), 11 B (in), 12 A (in), 13 VCC (power), 14 VCC (power)

## SN65MLVD205ADRG4
designator U?
100 Mbps Full-Duplex M-LVDS Transceiver with LVTTL, M-LVDS Input and LVTTL, M-LVDS Output, 1 Tx and 1 Rx, -40 to +85 degC, 14-pin SOIC (D), Green (RoHS & no Sb/Br); Part-to-Part Skew(Max)(ps): 1000; Manufacturer: Texas Instruments; PartNumber: SN65MLVD205ADRG4; ESD HBM(kV): 8; ICC(Max)(mA): 24; No. of Rx: 1; Signaling Rate(Mbps): 100; SubFamily: M-LVDS PHY (<500Mbps); DatasheetVersion: SLLS573; PackageVersion: revM, Jun-2011; PackageReference: D14; PackageDescription: 14-Pin Plastic Small Outline Integrated Circuit, 8.7 x 3.9 mm, Pitch 1.27 mm Pitch; Eco-Plan: Green (RoHS & no Sb/Br); Function: Transceiver; Input Signal: LVTTL, M-LVDS; No. of Tx: 1; Output Signal: LVTTL, M-LVDS; Mounting Technology: Surface Mount; Code_JEDEC: MS-012AB; ComponentLink1Description: Datasheet; ComponentLink1URL: http://www.ti.com/general/docs/lit/getliterature.tsp?genericPartNumber=SN65MLVD205A&fileType=pdf; ComponentLink2Description: URL Link1; ComponentLink2URL: SamplesURL:http://www.ti.com/product/sn65mlvd205a#samples
footprint D14_N (SOIC, 14-Leads, Body 8.7x3.9mm, Pitch 1.27mm, IPC Medium Density)
footprint D14_L (SOIC, 14-Leads, Body 8.7x3.9mm, Pitch 1.27mm, IPC High Density)
footprint D14_M (SOIC, 14-Leads, Body 8.7x3.9mm, Pitch 1.27mm, IPC Low Density)
pins: 1 NC, 2 R (hiz), 3 ~{RE} (in), 4 DE (in), 5 D (in), 6 GND (power), 7 GND (power), 8 NC, 9 Y (hiz), 10 Z (hiz), 11 B (in), 12 A (in), 13 VCC (power), 14 VCC (power)

## SN65MLVD206D
designator U?
200 Mbps Half-Duplex M-LVDS Transceiver with LVTTL, M-LVDS Input and LVTTL, M-LVDS Output, 1 Tx and 1 Rx, -40 to +85 degC, 8-pin SOIC (D), Green (RoHS & no Sb/Br); Part-to-Part Skew(Max)(ps): 1000; Manufacturer: Texas Instruments; PartNumber: SN65MLVD206D; ESD HBM(kV): 8; ICC(Max)(mA): 24; No. of Rx: 1; Signaling Rate(Mbps): 200; SubFamily: M-LVDS PHY (<500Mbps); DatasheetVersion: SLLS558C; PackageVersion: revM, Jun-2011; PackageReference: D14; PackageDescription: 14-Pin Plastic Small Outline Integrated Circuit, 8.7 x 3.9 mm, Pitch 1.27 mm Pitch; Eco-Plan: Green (RoHS & no Sb/Br); Function: Transceiver; Input Signal: LVTTL, M-LVDS; No. of Tx: 1; Output Signal: LVTTL, M-LVDS; Mounting Technology: Surface Mount; Code_JEDEC: MS-012AB; ComponentLink1Description: Datasheet; ComponentLink1URL: http://www.ti.com/general/docs/lit/getliterature.tsp?genericPartNumber=SN65MLVD206&fileType=pdf; ComponentLink2Description: URL Link1; ComponentLink2URL: SamplesURL:http://www.ti.com/product/sn65mlvd206#samples
footprint D14_N (SOIC, 14-Leads, Body 8.7x3.9mm, Pitch 1.27mm, IPC Medium Density)
footprint D14_L (SOIC, 14-Leads, Body 8.7x3.9mm, Pitch 1.27mm, IPC High Density)
footprint D14_M (SOIC, 14-Leads, Body 8.7x3.9mm, Pitch 1.27mm, IPC Low Density)
pins: 1 R (hiz), 2 ~{RE} (in), 3 DE (in), 4 D (in), 5 GND (power), 6 A (io), 7 B (io), 8 VCC (power)

## SN65MLVD206DG4
designator U?
200 Mbps Half-Duplex M-LVDS Transceiver with LVTTL, M-LVDS Input and LVTTL, M-LVDS Output, 1 Rx, -40 to +85 degC, 8-pin SOIC (D), Green (RoHS & no Sb/Br); Part-to-Part Skew(Max)(ps): 1000; Manufacturer: Texas Instruments; PartNumber: SN65MLVD206DG4; ESD HBM(kV): 8; ICC(Max)(mA): 24; No. of Rx: 1; Signaling Rate(Mbps): 200; SubFamily: M-LVDS PHY (<500Mbps); DatasheetVersion: SLLS558C; PackageVersion: revM, Jun-2011; PackageReference: D14; PackageDescription: 14-Pin Plastic Small Outline Integrated Circuit, 8.7 x 3.9 mm, Pitch 1.27 mm Pitch; Eco-Plan: Green (RoHS & no Sb/Br); Function: Transceiver; Input Signal: LVTTL, M-LVDS; No. of Tx: 1; Output Signal: LVTTL, M-LVDS; Mounting Technology: Surface Mount; Code_JEDEC: MS-012AB; ComponentLink1Description: Datasheet; ComponentLink1URL: http://www.ti.com/general/docs/lit/getliterature.tsp?genericPartNumber=SN65MLVD206&fileType=pdf; ComponentLink2Description: URL Link1; ComponentLink2URL: SamplesURL:http://www.ti.com/product/sn65mlvd206#samples
footprint D14_N (SOIC, 14-Leads, Body 8.7x3.9mm, Pitch 1.27mm, IPC Medium Density)
footprint D14_L (SOIC, 14-Leads, Body 8.7x3.9mm, Pitch 1.27mm, IPC High Density)
footprint D14_M (SOIC, 14-Leads, Body 8.7x3.9mm, Pitch 1.27mm, IPC Low Density)
pins: 1 R (hiz), 2 ~{RE} (in), 3 DE (in), 4 D (in), 5 GND (power), 6 A (io), 7 B (io), 8 VCC (power)

## SN65MLVD206DR
designator U?
200 Mbps Half-Duplex M-LVDS Transceiver with LVTTL, M-LVDS Input and LVTTL, M-LVDS Output, 1 Rx, -40 to +85 degC, 8-pin SOIC (D), Green (RoHS & no Sb/Br); Part-to-Part Skew(Max)(ps): 1000; Manufacturer: Texas Instruments; PartNumber: SN65MLVD206DR; ESD HBM(kV): 8; ICC(Max)(mA): 24; No. of Rx: 1; Signaling Rate(Mbps): 200; SubFamily: M-LVDS PHY (<500Mbps); DatasheetVersion: SLLS558C; PackageVersion: revM, Jun-2011; PackageReference: D14; PackageDescription: 14-Pin Plastic Small Outline Integrated Circuit, 8.7 x 3.9 mm, Pitch 1.27 mm Pitch; Eco-Plan: Green (RoHS & no Sb/Br); Function: Transceiver; Input Signal: LVTTL, M-LVDS; No. of Tx: 1; Output Signal: LVTTL, M-LVDS; Mounting Technology: Surface Mount; Code_JEDEC: MS-012AB; ComponentLink1Description: Datasheet; ComponentLink1URL: http://www.ti.com/general/docs/lit/getliterature.tsp?genericPartNumber=SN65MLVD206&fileType=pdf; ComponentLink2Description: URL Link1; ComponentLink2URL: SamplesURL:http://www.ti.com/product/sn65mlvd206#samples
footprint D14_N (SOIC, 14-Leads, Body 8.7x3.9mm, Pitch 1.27mm, IPC Medium Density)
footprint D14_L (SOIC, 14-Leads, Body 8.7x3.9mm, Pitch 1.27mm, IPC High Density)
footprint D14_M (SOIC, 14-Leads, Body 8.7x3.9mm, Pitch 1.27mm, IPC Low Density)
pins: 1 R (hiz), 2 ~{RE} (in), 3 DE (in), 4 D (in), 5 GND (power), 6 A (io), 7 B (io), 8 VCC (power)

## SN65MLVD206DRE4
designator U?
200 Mbps Half-Duplex M-LVDS Transceiver with LVTTL, M-LVDS Input and LVTTL, M-LVDS Output, 1 Rx, -40 to +85 degC, 8-pin SOIC (D), Green (RoHS & no Sb/Br); Part-to-Part Skew(Max)(ps): 1000; Manufacturer: Texas Instruments; PartNumber: SN65MLVD206DRE4; ESD HBM(kV): 8; ICC(Max)(mA): 24; No. of Rx: 1; Signaling Rate(Mbps): 200; SubFamily: M-LVDS PHY (<500Mbps); DatasheetVersion: SLLS558C; PackageVersion: revM, Jun-2011; PackageReference: D14; PackageDescription: 14-Pin Plastic Small Outline Integrated Circuit, 8.7 x 3.9 mm, Pitch 1.27 mm Pitch; Eco-Plan: Green (RoHS & no Sb/Br); Function: Transceiver; Input Signal: LVTTL, M-LVDS; No. of Tx: 1; Output Signal: LVTTL, M-LVDS; Mounting Technology: Surface Mount; Code_JEDEC: MS-012AB; ComponentLink1Description: Datasheet; ComponentLink1URL: http://www.ti.com/general/docs/lit/getliterature.tsp?genericPartNumber=SN65MLVD206&fileType=pdf; ComponentLink2Description: URL Link1; ComponentLink2URL: SamplesURL:http://www.ti.com/product/sn65mlvd206#samples
footprint D14_N (SOIC, 14-Leads, Body 8.7x3.9mm, Pitch 1.27mm, IPC Medium Density)
footprint D14_L (SOIC, 14-Leads, Body 8.7x3.9mm, Pitch 1.27mm, IPC High Density)
footprint D14_M (SOIC, 14-Leads, Body 8.7x3.9mm, Pitch 1.27mm, IPC Low Density)
pins: 1 R (hiz), 2 ~{RE} (in), 3 DE (in), 4 D (in), 5 GND (power), 6 A (io), 7 B (io), 8 VCC (power)

## SN65MLVD207D
designator U?
200 Mbps Full Duplex M-LVDS Transceiver with LVTTL Input and LVTTL Output, 1 Tx and 1 Rx, -40 to +85 degC, 14-pin SOIC (D), Green (RoHS & no Sb/Br); Part-to-Part Skew(Max)(ps): 1000; Manufacturer: Texas Instruments; PartNumber: SN65MLVD207D; ESD HBM(kV): 8; ICC(Max)(mA): 24; Input Signal: LVTTL, M-LVDS; No. of Rx: 1; Signaling Rate(Mbps): 200; SubFamily: M-LVDS PHY (<500Mbps); DatasheetVersion: SLLS558C; PackageVersion: revM, Jun-2011; PackageReference: D14; PackageDescription: 14-Pin Plastic Small Outline Integrated Circuit, 8.7 x 3.9 mm, Pitch 1.27 mm Pitch; Eco-Plan: Green (RoHS & no Sb/Br); Function: Transceiver; No. of Tx: 1; Output Signal: LVTTL, M-LVDS; Mounting Technology: Surface Mount; Code_JEDEC: MS-012AB; ComponentLink1Description: Datasheet; ComponentLink1URL: http://www.ti.com/general/docs/lit/getliterature.tsp?genericPartNumber=SN65MLVD207&fileType=pdf; ComponentLink2Description: URL Link1; ComponentLink2URL: SamplesURL:http://www.ti.com/product/sn65mlvd207#samples
footprint D14_N (SOIC, 14-Leads, Body 8.7x3.9mm, Pitch 1.27mm, IPC Medium Density)
footprint D14_L (SOIC, 14-Leads, Body 8.7x3.9mm, Pitch 1.27mm, IPC High Density)
footprint D14_M (SOIC, 14-Leads, Body 8.7x3.9mm, Pitch 1.27mm, IPC Low Density)
pins: 1 NC, 2 R (hiz), 3 ~{RE} (in), 4 DE (in), 5 D (in), 6 GND (power), 7 GND (power), 8 NC, 9 Y (hiz), 10 Z (hiz), 11 B (in), 12 A (in), 13 VCC (power), 14 VCC (power)

## SN65MLVD207DG4
designator U?
200 Mbps Full Duplex M-LVDS Transceiver with LVTTL Input and LVTTL Output, 1 Tx and 1 Rx, -40 to +85 degC, 14-pin SOIC (D), Green (RoHS & no Sb/Br); Part-to-Part Skew(Max)(ps): 1000; Manufacturer: Texas Instruments; PartNumber: SN65MLVD207DG4; ESD HBM(kV): 8; ICC(Max)(mA): 24; Input Signal: LVTTL, M-LVDS; No. of Rx: 1; Signaling Rate(Mbps): 200; SubFamily: M-LVDS PHY (<500Mbps); DatasheetVersion: SLLS558C; PackageVersion: revM, Jun-2011; PackageReference: D14; PackageDescription: 14-Pin Plastic Small Outline Integrated Circuit, 8.7 x 3.9 mm, Pitch 1.27 mm Pitch; Eco-Plan: Green (RoHS & no Sb/Br); Function: Transceiver; No. of Tx: 1; Output Signal: LVTTL, M-LVDS; Mounting Technology: Surface Mount; Code_JEDEC: MS-012AB; ComponentLink1Description: Datasheet; ComponentLink1URL: http://www.ti.com/general/docs/lit/getliterature.tsp?genericPartNumber=SN65MLVD207&fileType=pdf; ComponentLink2Description: URL Link1; ComponentLink2URL: SamplesURL:http://www.ti.com/product/sn65mlvd207#samples
footprint D14_N (SOIC, 14-Leads, Body 8.7x3.9mm, Pitch 1.27mm, IPC Medium Density)
footprint D14_L (SOIC, 14-Leads, Body 8.7x3.9mm, Pitch 1.27mm, IPC High Density)
footprint D14_M (SOIC, 14-Leads, Body 8.7x3.9mm, Pitch 1.27mm, IPC Low Density)
pins: 1 NC, 2 R (hiz), 3 ~{RE} (in), 4 DE (in), 5 D (in), 6 GND (power), 7 GND (power), 8 NC, 9 Y (hiz), 10 Z (hiz), 11 B (in), 12 A (in), 13 VCC (power), 14 VCC (power)